# EAGLE library part LT1172 (library ads4)
Linear Technology LT1172 100kHz 1.25A Internal Switch Regulator
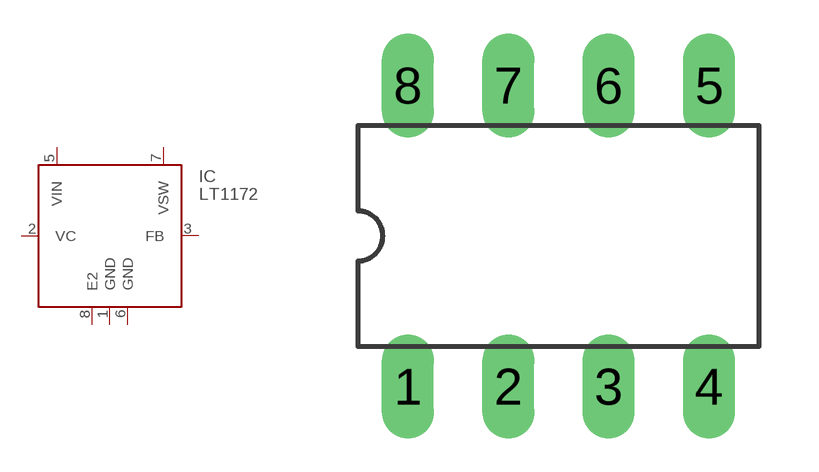
[diagram p70: symbol with the pads of DIL08; footprint DIL08]

Designator prefix IC

## LT1172N8  [DIL08]
1  GND  pas
2  VC  pas
3  FB  pas
5  VIN  pas
6  GND  pas
7  VSW  pas
8  E2  pas

## Footprint DIL08 (pad centres in mm)
8-pin Dual-In Line (copied from 74xx-us.lbr)
drill 0.813 long: 1 -3.81,-3.81; 2 -1.27,-3.81; 3 1.27,-3.81; 4 3.81,-3.81; 5 3.81,3.81; 6 1.27,3.81; 7 -1.27,3.81; 8 -3.81,3.81